# Altium footprint library IPC-SM-782 Section 11.4 CQFP.PcbLib: 13 footprints
Each footprint in its own frame and in the unit in brackets; x right, y up, seen from the top. Pads: shape width x height; smd on the part's side, far side on the other; paste and mask are expansions set on the pad; w line width, h text height; cw(c..) or ccw(c..) is an arc to the next point about the centre after c.
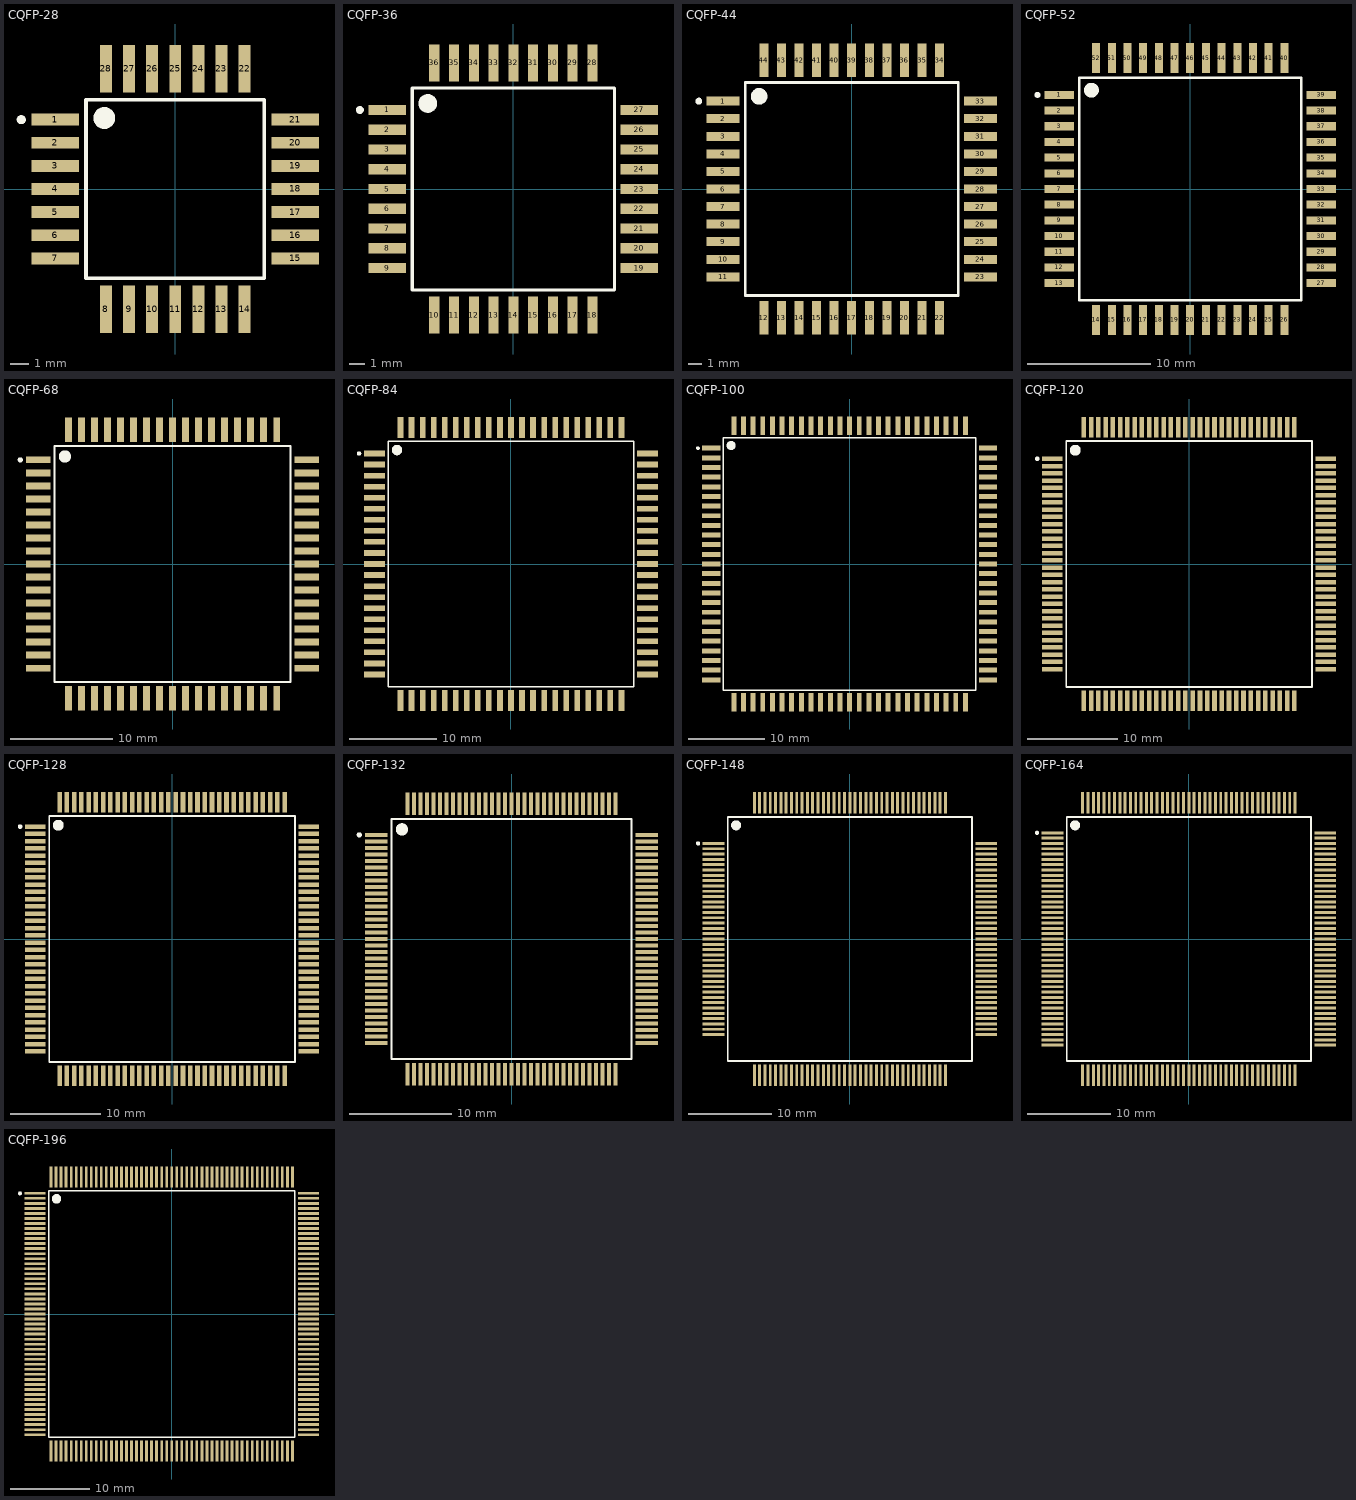
[diagram p0: the footprints below, top view; thin cyan lines are the x and y axes]

## CQFP-28 [mm] "QFP; 28 Leads; Body 9.5 x 9.5 mm; Pitch 1.27mm"
height 2.3
pads (28):
  rect 2.6x0.65 smd: 1(-6.6,3.81) 2(-6.6,2.54) 3(-6.6,1.27) 4(-6.6,0) 5(-6.6,-1.27) 6(-6.6,-2.54) 7(-6.6,-3.81) 15(6.6,-3.81) 16(6.6,-2.54) 17(6.6,-1.27) 18(6.6,0) 19(6.6,1.27) 20(6.6,2.54) 21(6.6,3.81)
  rect 0.65x2.6 smd: 8(-3.81,-6.6) 9(-2.54,-6.6) 10(-1.27,-6.6) 11(0,-6.6) 12(1.27,-6.6) 13(2.54,-6.6) 14(3.81,-6.6) 22(3.81,6.6) 23(2.54,6.6) 24(1.27,6.6) 25(0,6.6) 26(-1.27,6.6) 27(-2.54,6.6) 28(-3.81,6.6)
Top Overlay:
  circle w0.6: c-3.9,3.9 r0.3
  circle w0.25: c-8.46,3.81 r0.125
  lines w0.2: -4.9,-4.9 -4.9,4.9 4.9,4.9 4.9,-4.9 -4.9,-4.9

## CQFP-36 [mm] "QFP; 36 Leads; Body 12 x 12 mm; Pitch 1.27mm"
height 5
pads (36):
  rect 2.4x0.65 smd: 1(-8.1,5.08) 2(-8.1,3.81) 3(-8.1,2.54) 4(-8.1,1.27) 5(-8.1,0) 6(-8.1,-1.27) 7(-8.1,-2.54) 8(-8.1,-3.81) 9(-8.1,-5.08) 19(8.1,-5.08) 20(8.1,-3.81) 21(8.1,-2.54) 22(8.1,-1.27) 23(8.1,0) 24(8.1,1.27) 25(8.1,2.54) 26(8.1,3.81) 27(8.1,5.08)
  rect 0.65x2.4 smd: 10(-5.08,-8.1) 11(-3.81,-8.1) 12(-2.54,-8.1) 13(-1.27,-8.1) 14(0,-8.1) 15(1.27,-8.1) 16(2.54,-8.1) 17(3.81,-8.1) 18(5.08,-8.1) 28(5.08,8.1) 29(3.81,8.1) 30(2.54,8.1) 31(1.27,8.1) 32(0,8.1) 33(-1.27,8.1) 34(-2.54,8.1) 35(-3.81,8.1) 36(-5.08,8.1)
Top Overlay:
  circle w0.25: c-9.86,5.08 r0.125
  circle w0.6: c-5.5,5.5 r0.3
  lines w0.2: -6.5,-6.5 6.5,-6.5 6.5,6.5 -6.5,6.5 -6.5,-6.5

## CQFP-44 [mm] "QFP; 44 Leads; Body 15 x 15 mm; Pitch 1.27mm"
height 5
pads (44):
  rect 2.4x0.65 smd: 1(-9.3,6.35) 2(-9.3,5.08) 3(-9.3,3.81) 4(-9.3,2.54) 5(-9.3,1.27) 6(-9.3,0) 7(-9.3,-1.27) 8(-9.3,-2.54) 9(-9.3,-3.81) 10(-9.3,-5.08) 11(-9.3,-6.35) 23(9.3,-6.35) 24(9.3,-5.08) 25(9.3,-3.81) 26(9.3,-2.54) 27(9.3,-1.27) 28(9.3,0) 29(9.3,1.27) 30(9.3,2.54) 31(9.3,3.81) 32(9.3,5.08) 33(9.3,6.35)
  rect 0.65x2.4 smd: 12(-6.35,-9.3) 13(-5.08,-9.3) 14(-3.81,-9.3) 15(-2.54,-9.3) 16(-1.27,-9.3) 17(0,-9.3) 18(1.27,-9.3) 19(2.54,-9.3) 20(3.81,-9.3) 21(5.08,-9.3) 22(6.35,-9.3) 34(6.35,9.3) 35(5.08,9.3) 36(3.81,9.3) 37(2.54,9.3) 38(1.27,9.3) 39(0,9.3) 40(-1.27,9.3) 41(-2.54,9.3) 42(-3.81,9.3) 43(-5.08,9.3) 44(-6.35,9.3)
Top Overlay:
  circle w0.25: c-11.06,6.35 r0.125
  circle w0.6: c-6.7,6.7 r0.3
  lines w0.2: -7.7,-7.7 7.7,-7.7 7.7,7.7 -7.7,7.7 -7.7,-7.7

## CQFP-52 [mm] "QFP; 52 Leads; Body 17 x 17 mm; Pitch 1.27mm"
height 5
pads (52):
  rect 2.4x0.65 smd: 1(-10.6,7.62) 2(-10.6,6.35) 3(-10.6,5.08) 4(-10.6,3.81) 5(-10.6,2.54) 6(-10.6,1.27) 7(-10.6,0) 8(-10.6,-1.27) 9(-10.6,-2.54) 10(-10.6,-3.81) 11(-10.6,-5.08) 12(-10.6,-6.35) 13(-10.6,-7.62) 27(10.6,-7.62) 28(10.6,-6.35) 29(10.6,-5.08) 30(10.6,-3.81) 31(10.6,-2.54) 32(10.6,-1.27) 33(10.6,0) 34(10.6,1.27) 35(10.6,2.54) 36(10.6,3.81) 37(10.6,5.08) 38(10.6,6.35) 39(10.6,7.62)
  rect 0.65x2.4 smd: 14(-7.62,-10.6) 15(-6.35,-10.6) 16(-5.08,-10.6) 17(-3.81,-10.6) 18(-2.54,-10.6) 19(-1.27,-10.6) 20(0,-10.6) 21(1.27,-10.6) 22(2.54,-10.6) 23(3.81,-10.6) 24(5.08,-10.6) 25(6.35,-10.6) 26(7.62,-10.6) 40(7.62,10.6) 41(6.35,10.6) 42(5.08,10.6) 43(3.81,10.6) 44(2.54,10.6) 45(1.27,10.6) 46(0,10.6) 47(-1.27,10.6) 48(-2.54,10.6) 49(-3.81,10.6) 50(-5.08,10.6) 51(-6.35,10.6) 52(-7.62,10.6)
Top Overlay:
  circle w0.25: c-12.36,7.62 r0.125
  circle w0.6: c-8,8 r0.3
  lines w0.2: -9,-9 9,-9 9,9 -9,9 -9,-9

## CQFP-68 [mm] "QFP; 68 Leads; Body 22.5 x 22.5 mm; Pitch 1.27mm"
height 5
pads (68):
  rect 2.4x0.65 smd: 1(-13.1,10.16) 2(-13.1,8.89) 3(-13.1,7.62) 4(-13.1,6.35) 5(-13.1,5.08) 6(-13.1,3.81) 7(-13.1,2.54) 8(-13.1,1.27) 9(-13.1,0) 10(-13.1,-1.27) 11(-13.1,-2.54) 12(-13.1,-3.81) 13(-13.1,-5.08) 14(-13.1,-6.35) 15(-13.1,-7.62) 16(-13.1,-8.89) 17(-13.1,-10.16) 35(13.1,-10.16) 36(13.1,-8.89) 37(13.1,-7.62) 38(13.1,-6.35) 39(13.1,-5.08) 40(13.1,-3.81) 41(13.1,-2.54) 42(13.1,-1.27) 43(13.1,0) 44(13.1,1.27) 45(13.1,2.54) 46(13.1,3.81) 47(13.1,5.08) 48(13.1,6.35) 49(13.1,7.62) 50(13.1,8.89) 51(13.1,10.16)
  rect 0.65x2.4 smd: 18(-10.16,-13.1) 19(-8.89,-13.1) 20(-7.62,-13.1) 21(-6.35,-13.1) 22(-5.08,-13.1) 23(-3.81,-13.1) 24(-2.54,-13.1) 25(-1.27,-13.1) 26(0,-13.1) 27(1.27,-13.1) 28(2.54,-13.1) 29(3.81,-13.1) 30(5.08,-13.1) 31(6.35,-13.1) 32(7.62,-13.1) 33(8.89,-13.1) 34(10.16,-13.1) 52(10.16,13.1) 53(8.89,13.1) 54(7.62,13.1) 55(6.35,13.1) 56(5.08,13.1) 57(3.81,13.1) 58(2.54,13.1) 59(1.27,13.1) 60(0,13.1) 61(-1.27,13.1) 62(-2.54,13.1) 63(-3.81,13.1) 64(-5.08,13.1) 65(-6.35,13.1) 66(-7.62,13.1) 67(-8.89,13.1) 68(-10.16,13.1)
Top Overlay:
  circle w0.6: c-10.5,10.5 r0.3
  circle w0.25: c-14.86,10.16 r0.125
  lines w0.2: -11.5,-11.5 -11.5,11.5 11.5,11.5 11.5,-11.5 -11.5,-11.5

## CQFP-84 [mm] "QFP; 84 Leads; Body 27.5 x 27.5 mm; Pitch 1.27mm"
height 5
pads (84):
  rect 2.4x0.65 smd: 1(-15.7,12.7) 2(-15.7,11.43) 3(-15.7,10.16) 4(-15.7,8.89) 5(-15.7,7.62) 6(-15.7,6.35) 7(-15.7,5.08) 8(-15.7,3.81) 9(-15.7,2.54) 10(-15.7,1.27) 11(-15.7,0) 12(-15.7,-1.27) 13(-15.7,-2.54) 14(-15.7,-3.81) 15(-15.7,-5.08) 16(-15.7,-6.35) 17(-15.7,-7.62) 18(-15.7,-8.89) 19(-15.7,-10.16) 20(-15.7,-11.43) 21(-15.7,-12.7) 43(15.7,-12.7) 44(15.7,-11.43) 45(15.7,-10.16) 46(15.7,-8.89) 47(15.7,-7.62) 48(15.7,-6.35) 49(15.7,-5.08) 50(15.7,-3.81) 51(15.7,-2.54) 52(15.7,-1.27) 53(15.7,0) 54(15.7,1.27) 55(15.7,2.54) 56(15.7,3.81) 57(15.7,5.08) 58(15.7,6.35) 59(15.7,7.62) 60(15.7,8.89) 61(15.7,10.16) 62(15.7,11.43) 63(15.7,12.7)
  rect 0.65x2.4 smd: 22(-12.7,-15.7) 23(-11.43,-15.7) 24(-10.16,-15.7) 25(-8.89,-15.7) 26(-7.62,-15.7) 27(-6.35,-15.7) 28(-5.08,-15.7) 29(-3.81,-15.7) 30(-2.54,-15.7) 31(-1.27,-15.7) 32(0,-15.7) 33(1.27,-15.7) 34(2.54,-15.7) 35(3.81,-15.7) 36(5.08,-15.7) 37(6.35,-15.7) 38(7.62,-15.7) 39(8.89,-15.7) 40(10.16,-15.7) 41(11.43,-15.7) 42(12.7,-15.7) 64(12.7,15.7) 65(11.43,15.7) 66(10.16,15.7) 67(8.89,15.7) 68(7.62,15.7) 69(6.35,15.7) 70(5.08,15.7) 71(3.81,15.7) 72(2.54,15.7) 73(1.27,15.7) 74(0,15.7) 75(-1.27,15.7) 76(-2.54,15.7) 77(-3.81,15.7) 78(-5.08,15.7) 79(-6.35,15.7) 80(-7.62,15.7) 81(-8.89,15.7) 82(-10.16,15.7) 83(-11.43,15.7) 84(-12.7,15.7)
Top Overlay:
  circle w0.6: c-13.1,13.1 r0.3
  circle w0.25: c-17.46,12.7 r0.125
  lines w0.2: -14.1,-14.1 -14.1,14.1 14.1,14.1 14.1,-14.1 -14.1,-14.1

## CQFP-100 [mm] "QFP; 100 Leads; Body 32.5 x 32.5 mm; Pitch 1.27mm"
height 5
pads (100):
  rect 2.4x0.65 smd: 1(-18.2,15.24) 2(-18.2,13.97) 3(-18.2,12.7) 4(-18.2,11.43) 5(-18.2,10.16) 6(-18.2,8.89) 7(-18.2,7.62) 8(-18.2,6.35) 9(-18.2,5.08) 10(-18.2,3.81) 11(-18.2,2.54) 12(-18.2,1.27) 13(-18.2,0) 14(-18.2,-1.27) 15(-18.2,-2.54) 16(-18.2,-3.81) 17(-18.2,-5.08) 18(-18.2,-6.35) 19(-18.2,-7.62) 20(-18.2,-8.89) 21(-18.2,-10.16) 22(-18.2,-11.43) 23(-18.2,-12.7) 24(-18.2,-13.97) 25(-18.2,-15.24) 51(18.2,-15.24) 52(18.2,-13.97) 53(18.2,-12.7) 54(18.2,-11.43) 55(18.2,-10.16) 56(18.2,-8.89) 57(18.2,-7.62) 58(18.2,-6.35) 59(18.2,-5.08) 60(18.2,-3.81) 61(18.2,-2.54) 62(18.2,-1.27) 63(18.2,0) 64(18.2,1.27) 65(18.2,2.54) 66(18.2,3.81) 67(18.2,5.08) 68(18.2,6.35) 69(18.2,7.62) 70(18.2,8.89) 71(18.2,10.16) 72(18.2,11.43) 73(18.2,12.7) 74(18.2,13.97) 75(18.2,15.24)
  rect 0.65x2.4 smd: 26(-15.24,-18.2) 27(-13.97,-18.2) 28(-12.7,-18.2) 29(-11.43,-18.2) 30(-10.16,-18.2) 31(-8.89,-18.2) 32(-7.62,-18.2) 33(-6.35,-18.2) 34(-5.08,-18.2) 35(-3.81,-18.2) 36(-2.54,-18.2) 37(-1.27,-18.2) 38(0,-18.2) 39(1.27,-18.2) 40(2.54,-18.2) 41(3.81,-18.2) 42(5.08,-18.2) 43(6.35,-18.2) 44(7.62,-18.2) 45(8.89,-18.2) 46(10.16,-18.2) 47(11.43,-18.2) 48(12.7,-18.2) 49(13.97,-18.2) 50(15.24,-18.2) 76(15.24,18.2) 77(13.97,18.2) 78(12.7,18.2) 79(11.43,18.2) 80(10.16,18.2) 81(8.89,18.2) 82(7.62,18.2) 83(6.35,18.2) 84(5.08,18.2) 85(3.81,18.2) 86(2.54,18.2) 87(1.27,18.2) 88(0,18.2) 89(-1.27,18.2) 90(-2.54,18.2) 91(-3.81,18.2) 92(-5.08,18.2) 93(-6.35,18.2) 94(-7.62,18.2) 95(-8.89,18.2) 96(-10.16,18.2) 97(-11.43,18.2) 98(-12.7,18.2) 99(-13.97,18.2) 100(-15.24,18.2)
Top Overlay:
  circle w0.25: c-19.96,15.24 r0.125
  circle w0.6: c-15.6,15.6 r0.3
  lines w0.2: -16.6,-16.6 16.6,-16.6 16.6,16.6 -16.6,16.6 -16.6,-16.6

## CQFP-120 [mm] "QFP; 120 Leads; Body 27 x 27 mm; Pitch 0.8mm"
height 4.1
pads (120):
  rect 2.25x0.5 smd: 1(-15.069,11.6) 2(-15.069,10.8) 3(-15.069,10) 4(-15.069,9.2) 5(-15.069,8.4) 6(-15.069,7.6) 7(-15.069,6.8) 8(-15.069,6) 9(-15.069,5.2) 10(-15.069,4.4) 11(-15.069,3.6) 12(-15.069,2.8) 13(-15.069,2) 14(-15.081,1.195) 15(-15.069,0.4) 16(-15.069,-0.4) 17(-15.069,-1.2) 18(-15.069,-2) 19(-15.069,-2.8) 20(-15.069,-3.6) 21(-15.069,-4.4) 22(-15.069,-5.2) 23(-15.069,-6) 24(-15.069,-6.8) 25(-15.069,-7.6) 26(-15.069,-8.4) 27(-15.069,-9.2) 28(-15.069,-10) 29(-15.069,-10.8) 30(-15.069,-11.6) 61(15.081,-11.6) 62(15.081,-10.8) 63(15.081,-10) 64(15.081,-9.2) 65(15.081,-8.4) 66(15.081,-7.6) 67(15.081,-6.8) 68(15.081,-6) 69(15.081,-5.2) 70(15.081,-4.4) 71(15.081,-3.6) 72(15.081,-2.8) 73(15.081,-2) 74(15.081,-1.2) 75(15.081,-0.4) 76(15.081,0.4) 77(15.081,1.2) 78(15.081,2) 79(15.081,2.8) 80(15.081,3.6) 81(15.081,4.4) 82(15.081,5.2) 83(15.081,6) 84(15.081,6.8) 85(15.081,7.6) 86(15.081,8.4) 87(15.081,9.2) 88(15.081,10) 89(15.081,10.8) 90(15.081,11.6)
  rect 0.5x2.25 smd: 31(-11.594,-15.075) 32(-10.794,-15.075) 33(-9.994,-15.075) 34(-9.194,-15.075) 35(-8.394,-15.075) 36(-7.594,-15.075) 37(-6.794,-15.075) 38(-5.994,-15.075) 39(-5.194,-15.075) 40(-4.394,-15.075) 41(-3.594,-15.075) 42(-2.794,-15.075) 43(-1.994,-15.075) 44(-1.194,-15.075) 45(-0.394,-15.075) 46(0.406,-15.075) 47(1.206,-15.075) 48(2.006,-15.075) 49(2.806,-15.075) 50(3.606,-15.075) 51(4.406,-15.075) 52(5.206,-15.075) 53(6.006,-15.075) 54(6.806,-15.075) 55(7.606,-15.075) 56(8.406,-15.075) 57(9.206,-15.075) 58(10.006,-15.075) 59(10.806,-15.075) 60(11.606,-15.075) 91(11.606,15.075) 92(10.806,15.075) 93(10.006,15.075) 94(9.206,15.075) 95(8.406,15.075) 96(7.606,15.075) 97(6.806,15.075) 98(6.006,15.075) 99(5.206,15.075) 100(4.406,15.075) 101(3.606,15.075) 102(2.806,15.075) 103(2.006,15.075) 104(1.206,15.075) 105(0.406,15.075) 106(-0.394,15.075) 107(-1.194,15.075) 108(-1.994,15.075) 109(-2.794,15.075) 110(-3.594,15.075) 111(-4.394,15.075) 112(-5.194,15.075) 113(-5.994,15.075) 114(-6.794,15.075) 115(-7.594,15.075) 116(-8.394,15.075) 117(-9.194,15.075) 118(-9.994,15.075) 119(-10.794,15.075) 120(-11.594,15.075)
Top Overlay:
  circle w0.25: c-16.754,11.6 r0.125
  circle w0.6: c-12.544,12.55 r0.3
  lines w0.2: -13.544,-13.55 13.556,-13.55 13.556,13.55 -13.544,13.55 -13.544,-13.55

## CQFP-128 [mm] "QFP; 128 Leads; Body 27 x 27 mm; Pitch 0.8mm"
height 4.1
pads (128):
  rect 2.25x0.5 smd: 1(-15.075,12.4) 2(-15.075,11.6) 3(-15.075,10.8) 4(-15.075,10) 5(-15.075,9.2) 6(-15.075,8.4) 7(-15.075,7.6) 8(-15.075,6.8) 9(-15.075,6) 10(-15.075,5.2) 11(-15.075,4.4) 12(-15.075,3.6) 13(-15.075,2.8) 14(-15.075,2) 15(-15.075,1.2) 16(-15.075,0.4) 17(-15.075,-0.4) 18(-15.075,-1.2) 19(-15.075,-2) 20(-15.075,-2.8) 21(-15.075,-3.6) 22(-15.075,-4.4) 23(-15.075,-5.2) 24(-15.075,-6) 25(-15.075,-6.8) 26(-15.075,-7.6) 27(-15.075,-8.4) 28(-15.075,-9.2) 29(-15.075,-10) 30(-15.075,-10.8) 31(-15.075,-11.6) 32(-15.075,-12.4) 65(15.075,-12.4) 66(15.075,-11.6) 67(15.075,-10.8) 68(15.075,-10) 69(15.075,-9.2) 70(15.075,-8.4) 71(15.075,-7.6) 72(15.075,-6.8) 73(15.075,-6) 74(15.075,-5.2) 75(15.075,-4.4) 76(15.075,-3.6) 77(15.075,-2.8) 78(15.075,-2) 79(15.075,-1.2) 80(15.075,-0.4) 81(15.075,0.4) 82(15.075,1.2) 83(15.075,2) 84(15.075,2.8) 85(15.075,3.6) 86(15.075,4.4) 87(15.075,5.2) 88(15.075,6) 89(15.075,6.8) 90(15.075,7.6) 91(15.075,8.4) 92(15.075,9.2) 93(15.075,10) 94(15.075,10.8) 95(15.075,11.6) 96(15.075,12.4)
  rect 0.5x2.25 smd: 33(-12.4,-15.075) 34(-11.6,-15.075) 35(-10.8,-15.075) 36(-10,-15.075) 37(-9.2,-15.075) 38(-8.4,-15.075) 39(-7.6,-15.075) 40(-6.8,-15.075) 41(-6,-15.075) 42(-5.2,-15.075) 43(-4.4,-15.075) 44(-3.6,-15.075) 45(-2.8,-15.075) 46(-2,-15.075) 47(-1.2,-15.075) 48(-0.4,-15.075) 49(0.4,-15.075) 50(1.2,-15.075) 51(2,-15.075) 52(2.8,-15.075) 53(3.6,-15.075) 54(4.4,-15.075) 55(5.2,-15.075) 56(6,-15.075) 57(6.8,-15.075) 58(7.6,-15.075) 59(8.4,-15.075) 60(9.2,-15.075) 61(10,-15.075) 62(10.8,-15.075) 63(11.6,-15.075) 64(12.4,-15.075) 97(12.4,15.075) 98(11.6,15.075) 99(10.8,15.075) 100(10,15.075) 101(9.2,15.075) 102(8.4,15.075) 103(7.6,15.075) 104(6.8,15.075) 105(6,15.075) 106(5.2,15.075) 107(4.4,15.075) 108(3.6,15.075) 109(2.8,15.075) 110(2,15.075) 111(1.2,15.075) 112(0.4,15.075) 113(-0.4,15.075) 114(-1.2,15.075) 115(-2,15.075) 116(-2.8,15.075) 117(-3.6,15.075) 118(-4.4,15.075) 119(-5.2,15.075) 120(-6,15.075) 121(-6.8,15.075) 122(-7.6,15.075) 123(-8.4,15.075) 124(-9.2,15.075) 125(-10,15.075) 126(-10.8,15.075) 127(-11.6,15.075) 128(-12.4,15.075)
Top Overlay:
  circle w0.6: c-12.55,12.55 r0.3
  circle w0.25: c-16.76,12.4 r0.125
  lines w0.2: -13.55,-13.55 -13.55,13.55 13.55,13.55 13.55,-13.55 -13.55,-13.55

## CQFP-132 [mm] "QFP; 132 Leads; Body 24 x 24 mm; Pitch 0.635mm"
height 3.6
pads (132):
  rect 2.2x0.4 smd: 1(-13.2,10.16) 2(-13.2,9.525) 3(-13.2,8.89) 4(-13.2,8.255) 5(-13.2,7.62) 6(-13.2,6.985) 7(-13.2,6.35) 8(-13.2,5.715) 9(-13.2,5.08) 10(-13.2,4.445) 11(-13.2,3.81) 12(-13.2,3.175) 13(-13.2,2.54) 14(-13.2,1.905) 15(-13.2,1.27) 16(-13.2,0.635) 17(-13.2,0) 18(-13.2,-0.635) 19(-13.2,-1.27) 20(-13.2,-1.905) 21(-13.2,-2.54) 22(-13.2,-3.175) 23(-13.2,-3.81) 24(-13.2,-4.445) 25(-13.2,-5.08) 26(-13.2,-5.715) 27(-13.2,-6.35) 28(-13.2,-6.985) 29(-13.2,-7.62) 30(-13.2,-8.255) 31(-13.2,-8.89) 32(-13.2,-9.525) 33(-13.2,-10.16) 67(13.2,-10.16) 68(13.2,-9.525) 69(13.2,-8.89) 70(13.2,-8.255) 71(13.2,-7.62) 72(13.2,-6.985) 73(13.2,-6.35) 74(13.2,-5.715) 75(13.2,-5.08) 76(13.2,-4.445) 77(13.2,-3.81) 78(13.2,-3.175) 79(13.2,-2.54) 80(13.2,-1.905) 81(13.2,-1.27) 82(13.2,-0.635) 83(13.2,0) 84(13.2,0.635) 85(13.2,1.27) 86(13.2,1.905) 87(13.2,2.54) 88(13.2,3.175) 89(13.2,3.81) 90(13.2,4.445) 91(13.2,5.08) 92(13.2,5.715) 93(13.2,6.35) 94(13.2,6.985) 95(13.2,7.62) 96(13.2,8.255) 97(13.2,8.89) 98(13.2,9.525) 99(13.2,10.16)
  rect 0.4x2.2 smd: 34(-10.16,-13.2) 35(-9.525,-13.2) 36(-8.89,-13.2) 37(-8.255,-13.2) 38(-7.62,-13.2) 39(-6.985,-13.2) 40(-6.35,-13.2) 41(-5.715,-13.2) 42(-5.08,-13.2) 43(-4.445,-13.2) 44(-3.81,-13.2) 45(-3.175,-13.2) 46(-2.54,-13.2) 47(-1.905,-13.2) 48(-1.27,-13.2) 49(-0.635,-13.2) 50(0,-13.2) 51(0.635,-13.2) 52(1.27,-13.2) 53(1.905,-13.2) 54(2.54,-13.2) 55(3.175,-13.2) 56(3.81,-13.2) 57(4.445,-13.2) 58(5.08,-13.2) 59(5.715,-13.2) 60(6.35,-13.2) 61(6.985,-13.2) 62(7.62,-13.2) 63(8.255,-13.2) 64(8.89,-13.2) 65(9.525,-13.2) 66(10.16,-13.2) 100(10.16,13.2) 101(9.525,13.2) 102(8.89,13.2) 103(8.255,13.2) 104(7.62,13.2) 105(6.985,13.2) 106(6.35,13.2) 107(5.715,13.2) 108(5.08,13.2) 109(4.445,13.2) 110(3.81,13.2) 111(3.175,13.2) 112(2.54,13.2) 113(1.905,13.2) 114(1.27,13.2) 115(0.635,13.2) 116(0,13.2) 117(-0.635,13.2) 118(-1.27,13.2) 119(-1.905,13.2) 120(-2.54,13.2) 121(-3.175,13.2) 122(-3.81,13.2) 123(-4.445,13.2) 124(-5.08,13.2) 125(-5.715,13.2) 126(-6.35,13.2) 127(-6.985,13.2) 128(-7.62,13.2) 129(-8.255,13.2) 130(-8.89,13.2) 131(-9.525,13.2) 132(-10.16,13.2)
Top Overlay:
  circle w0.6: c-10.7,10.7 r0.3
  circle w0.25: c-14.86,10.16 r0.125
  lines w0.2: -11.7,-11.7 -11.7,11.7 11.7,11.7 11.7,-11.7 -11.7,-11.7

## CQFP-148 [mm] "QFP; 148 Leads; Body 28.5 x 28.5 mm; Pitch 0.635mm"
height 3.1
pads (148):
  rect 2.6x0.35 smd: 1(-16.3,11.43) 2(-16.3,10.795) 3(-16.3,10.16) 4(-16.3,9.525) 5(-16.3,8.89) 6(-16.3,8.255) 7(-16.3,7.62) 8(-16.3,6.985) 9(-16.3,6.35) 10(-16.3,5.715) 11(-16.3,5.08) 12(-16.3,4.445) 13(-16.3,3.81) 14(-16.3,3.175) 15(-16.3,2.54) 16(-16.3,1.905) 17(-16.3,1.27) 18(-16.3,0.635) 19(-16.3,0) 20(-16.3,-0.635) 21(-16.3,-1.27) 22(-16.3,-1.905) 23(-16.3,-2.54) 24(-16.3,-3.175) 25(-16.3,-3.81) 26(-16.3,-4.445) 27(-16.3,-5.08) 28(-16.3,-5.715) 29(-16.3,-6.35) 30(-16.3,-6.985) 31(-16.3,-7.62) 32(-16.3,-8.255) 33(-16.3,-8.89) 34(-16.3,-9.525) 35(-16.3,-10.16) 36(-16.3,-10.795) 37(-16.3,-11.43) 75(16.3,-11.43) 76(16.3,-10.795) 77(16.3,-10.16) 78(16.3,-9.525) 79(16.3,-8.89) 80(16.3,-8.255) 81(16.3,-7.62) 82(16.3,-6.985) 83(16.3,-6.35) 84(16.3,-5.715) 85(16.3,-5.08) 86(16.3,-4.445) 87(16.3,-3.81) 88(16.3,-3.175) 89(16.3,-2.54) 90(16.3,-1.905) 91(16.3,-1.27) 92(16.3,-0.635) 93(16.3,0) 94(16.3,0.635) 95(16.3,1.27) 96(16.3,1.905) 97(16.3,2.54) 98(16.3,3.175) 99(16.3,3.81) 100(16.3,4.445) 101(16.3,5.08) 102(16.3,5.715) 103(16.3,6.35) 104(16.3,6.985) 105(16.3,7.62) 106(16.3,8.255) 107(16.3,8.89) 108(16.3,9.525) 109(16.3,10.16) 110(16.3,10.795) 111(16.3,11.43)
  rect 0.35x2.6 smd: 38(-11.43,-16.3) 39(-10.795,-16.3) 40(-10.16,-16.3) 41(-9.525,-16.3) 42(-8.89,-16.3) 43(-8.255,-16.3) 44(-7.62,-16.3) 45(-6.985,-16.3) 46(-6.35,-16.3) 47(-5.715,-16.3) 48(-5.08,-16.3) 49(-4.445,-16.3) 50(-3.81,-16.3) 51(-3.175,-16.3) 52(-2.54,-16.3) 53(-1.905,-16.3) 54(-1.27,-16.3) 55(-0.635,-16.3) 56(0,-16.3) 57(0.635,-16.3) 58(1.27,-16.3) 59(1.905,-16.3) 60(2.54,-16.3) 61(3.175,-16.3) 62(3.81,-16.3) 63(4.445,-16.3) 64(5.08,-16.3) 65(5.715,-16.3) 66(6.35,-16.3) 67(6.985,-16.3) 68(7.62,-16.3) 69(8.255,-16.3) 70(8.89,-16.3) 71(9.525,-16.3) 72(10.16,-16.3) 73(10.795,-16.3) 74(11.43,-16.3) 112(11.43,16.3) 113(10.795,16.3) 114(10.16,16.3) 115(9.525,16.3) 116(8.89,16.3) 117(8.255,16.3) 118(7.62,16.3) 119(6.985,16.3) 120(6.35,16.3) 121(5.715,16.3) 122(5.08,16.3) 123(4.445,16.3) 124(3.81,16.3) 125(3.175,16.3) 126(2.54,16.3) 127(1.905,16.3) 128(1.27,16.3) 129(0.635,16.3) 130(0,16.3) 131(-0.635,16.3) 132(-1.27,16.3) 133(-1.905,16.3) 134(-2.54,16.3) 135(-3.175,16.3) 136(-3.81,16.3) 137(-4.445,16.3) 138(-5.08,16.3) 139(-5.715,16.3) 140(-6.35,16.3) 141(-6.985,16.3) 142(-7.62,16.3) 143(-8.255,16.3) 144(-8.89,16.3) 145(-9.525,16.3) 146(-10.16,16.3) 147(-10.795,16.3) 148(-11.43,16.3)
Top Overlay:
  circle w0.6: c-13.6,13.6 r0.3
  circle w0.25: c-18.16,11.43 r0.125
  lines w0.2: -14.6,-14.6 -14.6,14.6 14.6,14.6 14.6,-14.6 -14.6,-14.6

## CQFP-164 [mm] "QFP; 164 Leads; Body 29 x 29 mm; Pitch 0.635mm"
height 3.4
pads (164):
  rect 2.6x0.35 smd: 1(-16.3,12.7) 2(-16.3,12.065) 3(-16.3,11.43) 4(-16.3,10.795) 5(-16.3,10.16) 6(-16.3,9.525) 7(-16.3,8.89) 8(-16.3,8.255) 9(-16.3,7.62) 10(-16.3,6.985) 11(-16.3,6.35) 12(-16.3,5.715) 13(-16.3,5.08) 14(-16.3,4.445) 15(-16.3,3.81) 16(-16.3,3.175) 17(-16.3,2.54) 18(-16.3,1.905) 19(-16.3,1.27) 20(-16.3,0.635) 21(-16.3,0) 22(-16.3,-0.635) 23(-16.3,-1.27) 24(-16.3,-1.905) 25(-16.3,-2.54) 26(-16.3,-3.175) 27(-16.3,-3.81) 28(-16.3,-4.445) 29(-16.3,-5.08) 30(-16.3,-5.715) 31(-16.3,-6.35) 32(-16.3,-6.985) 33(-16.3,-7.62) 34(-16.3,-8.255) 35(-16.3,-8.89) 36(-16.3,-9.525) 37(-16.3,-10.16) 38(-16.3,-10.795) 39(-16.3,-11.43) 40(-16.3,-12.065) 41(-16.3,-12.7) 83(16.3,-12.7) 84(16.3,-12.065) 85(16.3,-11.43) 86(16.3,-10.795) 87(16.3,-10.16) 88(16.3,-9.525) 89(16.3,-8.89) 90(16.3,-8.255) 91(16.3,-7.62) 92(16.3,-6.985) 93(16.3,-6.35) 94(16.3,-5.715) 95(16.3,-5.08) 96(16.3,-4.445) 97(16.3,-3.81) 98(16.3,-3.175) 99(16.3,-2.54) 100(16.3,-1.905) 101(16.3,-1.27) 102(16.3,-0.635) 103(16.3,0) 104(16.3,0.635) 105(16.3,1.27) 106(16.3,1.905) 107(16.3,2.54) 108(16.3,3.175) 109(16.3,3.81) 110(16.3,4.445) 111(16.3,5.08) 112(16.3,5.715) 113(16.3,6.35) 114(16.3,6.985) 115(16.3,7.62) 116(16.3,8.255) 117(16.3,8.89) 118(16.3,9.525) 119(16.3,10.16) 120(16.3,10.795) 121(16.3,11.43) 122(16.3,12.065) 123(16.3,12.7)
  rect 0.35x2.6 smd: 42(-12.7,-16.3) 43(-12.065,-16.3) 44(-11.43,-16.3) 45(-10.795,-16.3) 46(-10.16,-16.3) 47(-9.525,-16.3) 48(-8.89,-16.3) 49(-8.255,-16.3) 50(-7.62,-16.3) 51(-6.985,-16.3) 52(-6.35,-16.3) 53(-5.715,-16.3) 54(-5.08,-16.3) 55(-4.445,-16.3) 56(-3.81,-16.3) 57(-3.175,-16.3) 58(-2.54,-16.3) 59(-1.905,-16.3) 60(-1.27,-16.3) 61(-0.635,-16.3) 62(0,-16.3) 63(0.635,-16.3) 64(1.27,-16.3) 65(1.905,-16.3) 66(2.54,-16.3) 67(3.175,-16.3) 68(3.81,-16.3) 69(4.445,-16.3) 70(5.08,-16.3) 71(5.715,-16.3) 72(6.35,-16.3) 73(6.985,-16.3) 74(7.62,-16.3) 75(8.255,-16.3) 76(8.89,-16.3) 77(9.525,-16.3) 78(10.16,-16.3) 79(10.795,-16.3) 80(11.43,-16.3) 81(12.065,-16.3) 82(12.7,-16.3) 124(12.7,16.3) 125(12.065,16.3) 126(11.43,16.3) 127(10.795,16.3) 128(10.16,16.3) 129(9.525,16.3) 130(8.89,16.3) 131(8.255,16.3) 132(7.62,16.3) 133(6.985,16.3) 134(6.35,16.3) 135(5.715,16.3) 136(5.08,16.3) 137(4.445,16.3) 138(3.81,16.3) 139(3.175,16.3) 140(2.54,16.3) 141(1.905,16.3) 142(1.27,16.3) 143(0.635,16.3) 144(0,16.3) 145(-0.635,16.3) 146(-1.27,16.3) 147(-1.905,16.3) 148(-2.54,16.3) 149(-3.175,16.3) 150(-3.81,16.3) 151(-4.445,16.3) 152(-5.08,16.3) 153(-5.715,16.3) 154(-6.35,16.3) 155(-6.985,16.3) 156(-7.62,16.3) 157(-8.255,16.3) 158(-8.89,16.3) 159(-9.525,16.3) 160(-10.16,16.3) 161(-10.795,16.3) 162(-11.43,16.3) 163(-12.065,16.3) 164(-12.7,16.3)
Top Overlay:
  circle w0.25: c-18.16,12.7 r0.125
  circle w0.6: c-13.6,13.6 r0.3
  lines w0.2: -14.6,-14.6 14.6,-14.6 14.6,14.6 -14.6,14.6 -14.6,-14.6

## CQFP-196 [mm] "QFP; 196 Leads; Body 34 x 34 mm; Pitch 0.635mm"
height 3.5
pads (196):
  rect 2.65x0.35 smd: 1(-17.275,15.24) 2(-17.275,14.605) 3(-17.275,13.97) 4(-17.275,13.335) 5(-17.275,12.7) 6(-17.275,12.065) 7(-17.275,11.43) 8(-17.275,10.795) 9(-17.275,10.16) 10(-17.275,9.525) 11(-17.275,8.89) 12(-17.275,8.255) 13(-17.275,7.62) 14(-17.275,6.985) 15(-17.275,6.35) 16(-17.275,5.715) 17(-17.275,5.08) 18(-17.275,4.445) 19(-17.275,3.81) 20(-17.275,3.175) 21(-17.275,2.54) 22(-17.275,1.905) 23(-17.275,1.27) 24(-17.275,0.635) 25(-17.275,0) 26(-17.275,-0.635) 27(-17.275,-1.27) 28(-17.275,-1.905) 29(-17.275,-2.54) 30(-17.275,-3.175) 31(-17.275,-3.81) 32(-17.275,-4.445) 33(-17.275,-5.08) 34(-17.275,-5.715) 35(-17.275,-6.35) 36(-17.275,-6.985) 37(-17.275,-7.62) 38(-17.275,-8.255) 39(-17.275,-8.89) 40(-17.275,-9.525) 41(-17.275,-10.16) 42(-17.275,-10.795) 43(-17.275,-11.43) 44(-17.275,-12.065) 45(-17.275,-12.7) 46(-17.275,-13.335) 47(-17.275,-13.97) 48(-17.275,-14.605) 49(-17.275,-15.24) 99(17.275,-15.24) 100(17.275,-14.605) 101(17.275,-13.97) 102(17.275,-13.335) 103(17.275,-12.7) 104(17.275,-12.065) 105(17.275,-11.43) 106(17.275,-10.795) 107(17.275,-10.16) 108(17.275,-9.525) 109(17.275,-8.89) 110(17.275,-8.255) 111(17.275,-7.62) 112(17.275,-6.985) 113(17.275,-6.35) 114(17.275,-5.715) 115(17.275,-5.08) 116(17.275,-4.445) 117(17.275,-3.81) 118(17.275,-3.175) 119(17.275,-2.54) 120(17.275,-1.905) 121(17.275,-1.27) 122(17.275,-0.635) 123(17.275,0) 124(17.275,0.635) 125(17.275,1.27) 126(17.275,1.905) 127(17.275,2.54) 128(17.275,3.175) 129(17.275,3.81) 130(17.275,4.445) 131(17.275,5.08) 132(17.275,5.715) 133(17.275,6.35) 134(17.275,6.985) 135(17.275,7.62) 136(17.275,8.255) 137(17.275,8.89) 138(17.275,9.525) 139(17.275,10.16) 140(17.275,10.795) 141(17.275,11.43) 142(17.275,12.065) 143(17.275,12.7) 144(17.275,13.335) 145(17.275,13.97) 146(17.275,14.605) 147(17.275,15.24)
  rect 0.35x2.65 smd: 50(-15.24,-17.275) 51(-14.605,-17.275) 52(-13.97,-17.275) 53(-13.335,-17.275) 54(-12.7,-17.275) 55(-12.065,-17.275) 56(-11.43,-17.275) 57(-10.795,-17.275) 58(-10.16,-17.275) 59(-9.525,-17.275) 60(-8.89,-17.275) 61(-8.255,-17.275) 62(-7.62,-17.275) 63(-6.985,-17.275) 64(-6.35,-17.275) 65(-5.715,-17.275) 66(-5.08,-17.275) 67(-4.445,-17.275) 68(-3.81,-17.275) 69(-3.175,-17.275) 70(-2.54,-17.275) 71(-1.905,-17.275) 72(-1.27,-17.275) 73(-0.635,-17.275) 74(0,-17.275) 75(0.635,-17.275) 76(1.27,-17.275) 77(1.905,-17.275) 78(2.54,-17.275) 79(3.175,-17.275) 80(3.81,-17.275) 81(4.445,-17.275) 82(5.08,-17.275) 83(5.715,-17.275) 84(6.35,-17.275) 85(6.985,-17.275) 86(7.62,-17.275) 87(8.255,-17.275) 88(8.89,-17.275) 89(9.525,-17.275) 90(10.16,-17.275) 91(10.795,-17.275) 92(11.43,-17.275) 93(12.065,-17.275) 94(12.7,-17.275) 95(13.335,-17.275) 96(13.97,-17.275) 97(14.605,-17.275) 98(15.24,-17.275) 148(15.24,17.275) 149(14.605,17.275) 150(13.97,17.275) 151(13.335,17.275) 152(12.7,17.275) 153(12.065,17.275) 154(11.43,17.275) 155(10.795,17.275) 156(10.16,17.275) 157(9.525,17.275) 158(8.89,17.275) 159(8.255,17.275) 160(7.62,17.275) 161(6.985,17.275) 162(6.35,17.275) 163(5.715,17.275) 164(5.08,17.275) 165(4.445,17.275) 166(3.81,17.275) 167(3.175,17.275) 168(2.54,17.275) 169(1.905,17.275) 170(1.27,17.275) 171(0.635,17.275) 172(0,17.275) 173(-0.635,17.275) 174(-1.27,17.275) 175(-1.905,17.275) 176(-2.54,17.275) 177(-3.175,17.275) 178(-3.81,17.275) 179(-4.445,17.275) 180(-5.08,17.275) 181(-5.715,17.275) 182(-6.35,17.275) 183(-6.985,17.275) 184(-7.62,17.275) 185(-8.255,17.275) 186(-8.89,17.275) 187(-9.525,17.275) 188(-10.16,17.275) 189(-10.795,17.275) 190(-11.43,17.275) 191(-12.065,17.275) 192(-12.7,17.275) 193(-13.335,17.275) 194(-13.97,17.275) 195(-14.605,17.275) 196(-15.24,17.275)
Top Overlay:
  circle w0.25: c-19.16,15.24 r0.125
  circle w0.6: c-14.55,14.55 r0.3
  lines w0.2: -15.55,-15.55 15.55,-15.55 15.55,15.55 -15.55,15.55 -15.55,-15.55